# EAGLE library part MCP46* (library Microchip)
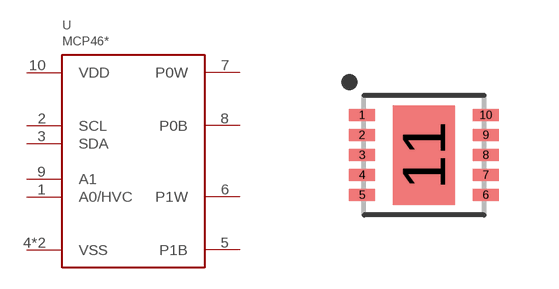
[diagram p63: symbol with the pads of DFN10_2; footprint DFN10_2]

Designator prefix U

## MCP4632-103, MCP4632-104, MCP4632-502, MCP4632-503, MCP4642-103, MCP4642-104, MCP4642-502, MCP4642-503, MCP4652-103, MCP4652-104, MCP4652-502, MCP4652-503, MCP4662-103, MCP4662-104, MCP4662-502, MCP4662-503  [DFN10_2]
1  A0/HVC
2  SCL
3  SDA
4  VSS
5  P1B
6  P1W
7  P0W
8  P0B
9  A1
10  VDD
11  VSS

## Footprint DFN10_2 (pad centres in mm)
smd 0.65 x 0.3: 1 -1.55,1; 2 -1.55,0.5; 3 -1.55,0; 4 -1.55,-0.5; 5 -1.55,-1; 6 1.55,-1; 7 1.55,-0.5; 8 1.55,0; 9 1.55,0.5; 10 1.55,1
smd 1.55 x 2.48: 11 0,0